# Altium footprint library USB.PcbLib: 1 footprints
Each footprint in its own frame and in the unit in brackets; x right, y up, seen from the top. Pads: shape width x height; smd on the part's side, far side on the other; paste and mask are expansions set on the pad; w line width, h text height; cw(c..) or ccw(c..) is an arc to the next point about the centre after c.
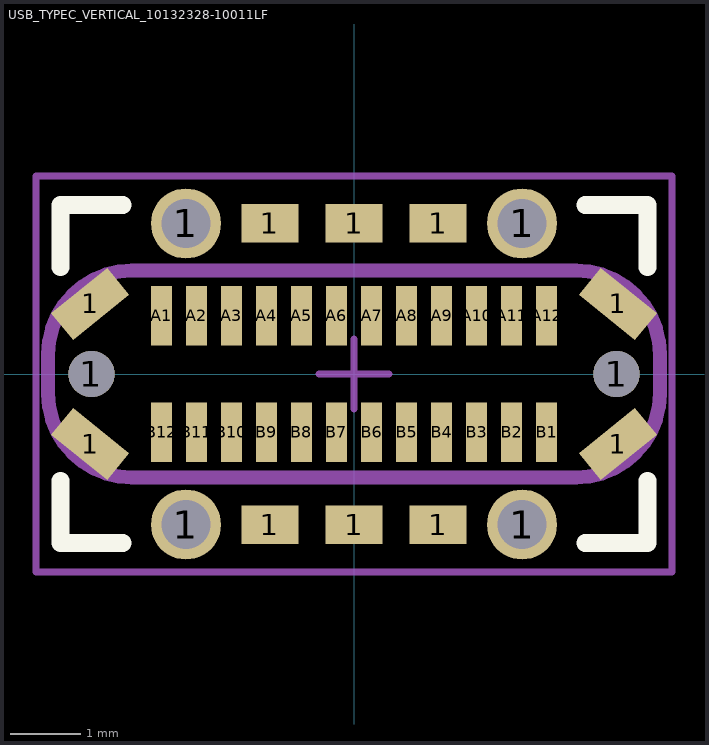
[diagram p0: the footprint, top view; thin cyan lines are the x and y axes]

## USB_TYPEC_VERTICAL_10132328-10011LF [mm] "USB - C (Type - C) USB 3.1 (USB 3.1 Gen 2, Superspeed+) Receptacle Connector 24 Position Surface Mount, Through Hole"
height 8.8
pads (40):
  rect 1.03x0.5 smd rot 141: 1(-3.77,-1) 1(3.77,1)
  rect 1.03x0.5 smd rot 39: 1(-3.77,1) 1(3.77,-1)
  round 0.66 hole 0.66 unplated paste+0 mask+0: 1(-3.75,0) 1(3.75,0)
  round 1 hole 0.7: 1(-2.4,-2.15) 1(-2.4,2.15) 1(2.4,-2.15) 1(2.4,2.15)
  rect 0.82x0.55 smd: 1(-1.2,-2.15) 1(-1.2,2.15) 1(0,-2.15) 1(0,2.15) 1(1.2,-2.15) 1(1.2,2.15)
  rect 0.3x0.85 smd: A1(-2.75,0.83) A2(-2.25,0.83) A3(-1.75,0.83) A4(-1.25,0.83) A5(-0.75,0.83) A6(-0.25,0.83) A7(0.25,0.83) A8(0.75,0.83) A9(1.25,0.83) A10(1.75,0.83) A11(2.25,0.83) A12(2.75,0.83) B1(2.75,-0.83) B2(2.25,-0.83) B3(1.75,-0.83) B4(1.25,-0.83) B5(0.75,-0.83) B6(0.25,-0.83) B7(-0.25,-0.83) B8(-0.75,-0.83) B9(-1.25,-0.83) B10(-1.75,-0.83) B11(-2.25,-0.83) B12(-2.75,-0.83)
Top Overlay:
  lines w0.254: -4.191,-1.524 -4.191,-2.413 -3.302,-2.413 ; -4.191,1.524 -4.191,2.413 -3.302,2.413 ; 3.302,-2.413 4.191,-2.413 4.191,-1.524 ; 3.302,2.413 4.191,2.413 4.191,1.524
Top Assembly:
  lines w0.2: -4.37,-0.28 ccw(c-3.17,-0.28) -3.17,-1.48 3.17,-1.48 ccw(c3.17,-0.28) 4.37,-0.28 4.37,0.28 ccw(c3.17,0.28) 3.17,1.48 -3.17,1.48 ccw(c-3.17,0.28) -4.37,0.28 -4.37,-0.28
Top Designator:
  text ".Designator" at -2.159,-0.302 h1
Top Courtyard (Mech15):
  lines w0.1: -0.5,0 0.5,0 ; 0,-0.5 0,0.5 ; -4.545,-2.825 4.545,-2.825 4.545,2.825 -4.545,2.825 -4.545,-2.825
3D body "10132328-10011LF.stp": height 8.8, standoff -1.3, extent -4.37,-2.25 4.37,2.25